# Altium footprint library Andy_Parts.PcbLib: 121 footprints (part 3 of 8)
Each footprint in its own frame and in the unit in brackets; x right, y up, seen from the top. Pads: shape width x height; smd on the part's side, far side on the other; paste and mask are expansions set on the pad; w line width, h text height; cw(c..) or ccw(c..) is an arc to the next point about the centre after c.
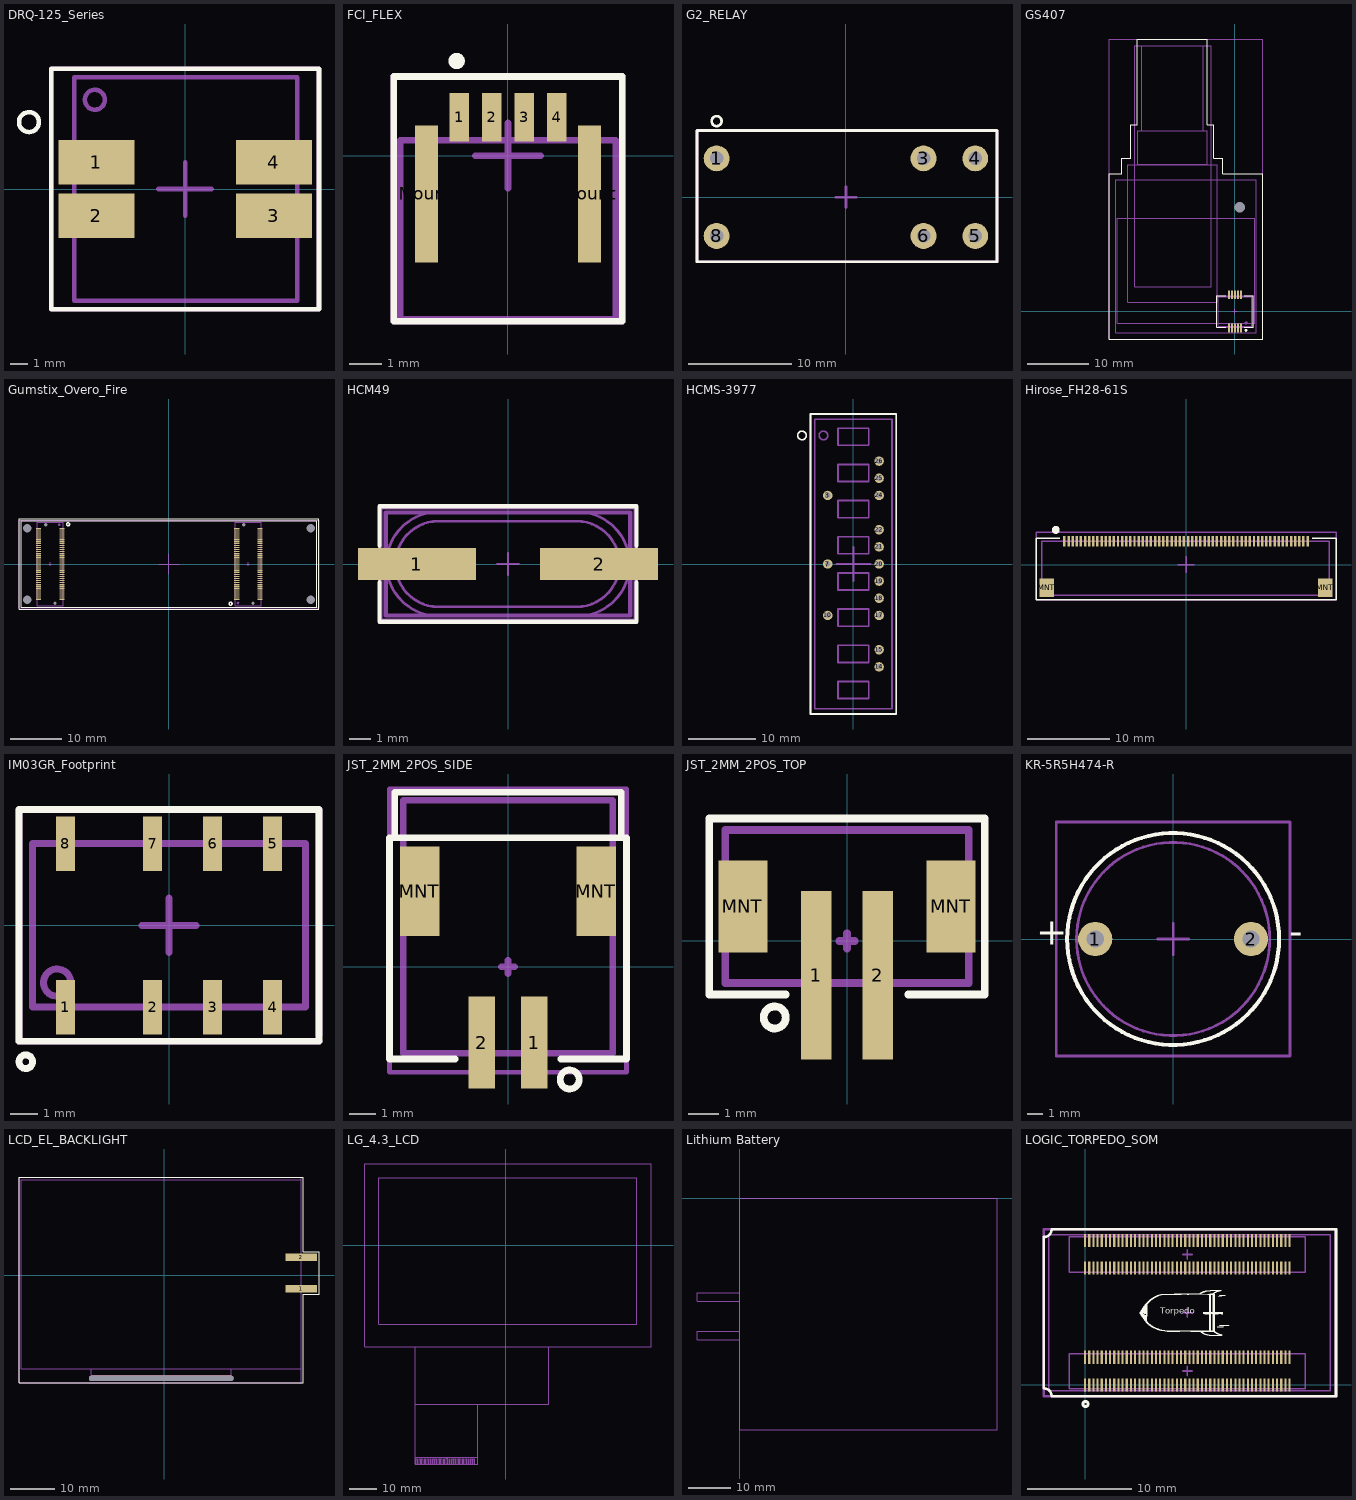
[diagram p2: the footprints below, top view; thin cyan lines are the x and y axes]

## DRQ-125_Series [mm] "Coiltronics DRQ125 series dual inductor"
height 6
pads (4):
  rect 4.25x2.5 smd: 1(-4.975,1.5) 2(-4.975,-1.5) 3(4.975,-1.5) 4(4.975,1.5)
Top Overlay:
  circle w0.254: c-8.75,3.75 r0.559
  lines w0.254: -7.5,-6.75 -7.5,-2.5 -7.5,6.75 7.5,6.75 7.5,-6.75 -7.5,-6.75
Mechanical 1:
  text ".Designator" at -2.75,-0.5 h2
Mechanical 13:
  circle w0.254: c-5.059,5 r0.559
  lines w0.254: -6.225,-6.25 -6.225,6.25 6.275,6.25 6.275,-6.25 -6.225,-6.25
Mechanical 15:
  lines w0.254: -1.5,0 0,0 ; 0,-1.5 0,0 ; 0,1.5 0,0 ; 1.5,0 0,0 ; -7.5,-6.75 7.5,-6.75 7.5,6.75 -7.5,6.75 -7.5,-2.5 -7.5,-6.75
3D body: height 6, standoff 0, extent -6.225,-6.25 6.275,6.25

## FCI_FLEX [mm] "4 position, 1mm pitch flex connector"
height 1.9
pads (6):
  rect 0.6x1.5 smd: 1(-1.5,1.175) 2(-0.5,1.175) 3(0.5,1.175) 4(1.5,1.175)
  rect 0.7x4.2 smd: Mount(-2.5,-1.175) Mount(2.5,-1.175)
Top Overlay:
  circle w0.25: c-1.575,2.9 r0.125
  lines w0.203: -3.5,-5.075 3.25,-5.075 3.5,-5.075 3.5,-5.025 3.5,2.425 3.25,2.425 2.25,2.425 -3.5,2.425 -3.5,-5.075
Mechanical 1:
  text ".Designator" at -2.009,-1.754 h0.64
Mechanical 13:
  lines w0.203: -3.3,-5.025 -3.3,0.475 3.3,0.475 3.3,-5.025 -3.3,-5.025
Mechanical 15:
  lines w0.203: -1,0 0,0 ; 0,-1 0,0 ; 0,1 0,0 ; 1,0 0,0 ; -3.5,-5.075 -3.5,2.425 2.25,2.425 3.25,2.425 3.5,2.425 3.5,-5.025 3.5,-5.075 3.25,-5.075 -3.5,-5.075
3D body: height 1.9, standoff 0, extent -3.3,-5.025 3.3,0.475

## G2_RELAY [mm] "Omron G2 series SPST PCB relay"
height 15.7
pads (6):
  round 2.5 hole 1.3: 1(-12.5,3.75) 3(7.5,3.75) 4(12.5,3.75) 5(12.5,-3.75) 6(7.5,-3.75) 8(-12.5,-3.75)
Top Overlay:
  circle w0.254: c-12.505,7.35 r0.48
  lines w0.254: -14.4,-6.25 14.6,-6.25 14.6,6.45 -14.4,6.45 -14.4,-6.25
Mechanical 1:
  text ".Designator" at -2.509,-0.254 h0.64
Mechanical 15:
  lines w0.254: -1,0 0,0 ; 0,-1 0,0 ; 0,1 0,0 ; 1,0 0,0 ; -14.4,-6.25 -14.4,6.45 14.6,6.45 14.6,-6.25 -14.4,-6.25
3D body: height 15.7, standoff 0.5, extent -14.4,-6.25 14.6,6.45

## GS407 [mm] "GPS module w/ helical antenna"
height 8.9
pads (11):
  rect 0.3x1.4 smd: 1(1,-2.7) 2(1,2.7) 3(0.5,-2.7) 4(0.5,2.7) 5(0,-2.7) 6(0,2.7) 7(-0.5,-2.7) 8(-0.5,2.7) 9(-1,-2.7) 10(-1,2.7)
  rect 0x0 hole 1.7 unplated: HOLE(0.75,17)
Top Overlay:
  circle w0.254: c1.8,-3.1 r0.1
  lines w0.152: -1.5,-2.6 -3,-2.6 -3,-1.5 -3,2.6 -1.5,2.6 ; 1.5,-2.6 3,-2.6 3,2.1 3,2.6 1.5,2.6 ; -20.5,-4.5 -20.5,5 -20.5,22.5 -18.5,22.5 -18.5,25 -17,25 -17,30.5 -16,30.5 -16,44.5 -5.5,44.5 -4.5,44.5 -4.5,30.5 -3.5,30.5 -3.5,25 -2,25 -2,22.5 4.5,22.5 4.5,19.5 4.5,-4.5 1,-4.5 -20.5,-4.5
Mechanical 1:
  lines w0.152: -16.4,4 -16.4,43.425 -6,43.425 -3.9,43.425 -3.9,4 -16.4,4
  text "Cut Out PCB Here" at -9.5,11 h1.52
  text ".Designator" at -2.75,-0.5 h0.75
Mechanical 13:
  circle w0.254: c1.825,-1.875 r0.135
  lines w0.152: -19.5,-3.5 3.5,-3.5 3.5,21.5 -19.5,21.5 -19.5,-3.5 ; -19.25,-1.9 3.25,-1.9 3.25,15.2 -19.25,15.2 -19.25,-1.9 ; -17.5,1.5 -17.5,24 -2.9,24 -2.9,1.5 -17.5,1.5 ; -16.4,4 -16.4,24 -3.9,24 -3.9,4 -16.4,4 ; -15.875,24.025 -4.525,24.025 -4.525,29.525 -15.875,29.525 -15.875,24.025 ; -15.211,29.525 -5.211,29.525 -5.211,43.425 -15.211,43.425 -15.211,29.525 ; -2.75,-2.4 2.75,-2.4 2.75,2.4 -2.75,2.4 -2.75,-2.4
Mechanical 15:
  lines w0.152: -0.4,0 0.4,0 ; 0,-0.4 0,0.4 ; -20.5,-4.5 4.5,-4.5 4.5,44.5 -4.5,44.5 -20.5,44.5 -20.5,-4.5 ; -3,-2.6 -3,2.6 3,2.6 3,-2.6 -3,-2.6
3D body: height 0.5, standoff -2, extent -16.4,4 -3.9,24
3D body: height 2, standoff 0, extent -2.75,-2.4 2.75,2.4
3D body: height 3.6, standoff 2, extent -19.5,-3.5 3.5,21.5
3D body: height 6.9, standoff 3.6, extent -19.25,-1.9 3.25,15.2
3D body: height 2, standoff 0.5, extent -17.5,1.5 -2.9,24
3D body: height 4.69, standoff -5.29, extent -15.211,29.525 -5.25,43.425
3D body: height 5.36, standoff -5.96, extent -15.85,24.025 -4.545,29.525

## Gumstix_Overo_Fire [mm] "Gumstix Overo Fire Computer on Module"
pads (148):
  rect 1x0.23 smd: 1(-20.7,6.8) 2(-20.7,6.4) 3(-20.7,6) 4(-20.7,5.6) 5(-20.7,5.2) 6(-20.7,4.8) 7(-20.7,4.4) 8(-20.7,4) 9(-20.7,3.6) 10(-20.7,3.2) 11(-20.7,2.8) 12(-20.7,2.4) 13(-20.7,2) 14(-20.7,1.6) 15(-20.7,1.2) 16(-20.7,0.8) 17(-20.7,0.4) 18(-20.7,0) 19(-20.7,-0.4) 20(-20.7,-0.8) 21(-20.7,-1.2) 22(-20.7,-1.6) 23(-20.7,-2) 24(-20.7,-2.4) 25(-20.7,-2.8) 26(-20.7,-3.2) 27(-20.7,-3.6) 28(-20.7,-4) 29(-20.7,-4.4) 30(-20.7,-4.8) 31(-20.7,-5.2) 32(-20.7,-5.6) 33(-20.7,-6) 34(-20.7,-6.4) 35(-20.7,-6.8) 36(-25.2,-6.8) 37(-25.2,-6.4) 38(-25.2,-6) 39(-25.2,-5.6) 40(-25.2,-5.2) 41(-25.2,-4.8) 42(-25.2,-4.4) 43(-25.2,-4) 44(-25.2,-3.6) 45(-25.2,-3.2) 46(-25.2,-2.8) 47(-25.2,-2.4) 48(-25.2,-2) 49(-25.2,-1.6) 50(-25.2,-1.2) 51(-25.2,-0.8) 52(-25.2,-0.4) 53(-25.2,0) 54(-25.2,0.4) 55(-25.2,0.8) 56(-25.2,1.2) 57(-25.2,1.6) 58(-25.2,2) 59(-25.2,2.4) 60(-25.2,2.8) 61(-25.2,3.2) 62(-25.2,3.6) 63(-25.2,4) 64(-25.2,4.4) 65(-25.2,4.8) 66(-25.2,5.2) 67(-25.2,5.6) 68(-25.2,6) 69(-25.2,6.4) 70(-25.2,6.8) 71(13.1,-6.8) 72(13.1,-6.4) 73(13.1,-6) 74(13.1,-5.6) 75(13.1,-5.2) 76(13.1,-4.8) 77(13.1,-4.4) 78(13.1,-4) 79(13.1,-3.6) 80(13.1,-3.2) 81(13.1,-2.8) 82(13.1,-2.4) 83(13.1,-2) 84(13.1,-1.6) 85(13.1,-1.2) 86(13.1,-0.8) 87(13.1,-0.4) 88(13.1,0) 89(13.1,0.4) 90(13.1,0.8) 91(13.1,1.2) 92(13.1,1.6) 93(13.1,2) 94(13.1,2.4) 95(13.1,2.8) 96(13.1,3.2) 97(13.1,3.6) 98(13.1,4) 99(13.1,4.4) 100(13.1,4.8) 101(13.1,5.2) 102(13.1,5.6) 103(13.1,6) 104(13.1,6.4) 105(13.1,6.8) 106(17.6,6.8) 107(17.6,6.4) 108(17.6,6) 109(17.6,5.6) 110(17.6,5.2) 111(17.6,4.8) 112(17.6,4.4) 113(17.6,4) 114(17.6,3.6) 115(17.6,3.2) 116(17.6,2.8) 117(17.6,2.4) 118(17.6,2) 119(17.6,1.6) 120(17.6,1.2) 121(17.6,0.8) 122(17.6,0.4) 123(17.6,0) 124(17.6,-0.4) 125(17.6,-0.8) 126(17.6,-1.2) 127(17.6,-1.6) 128(17.6,-2) 129(17.6,-2.4) 130(17.6,-2.8) 131(17.6,-3.2) 132(17.6,-3.6) 133(17.6,-4) 134(17.6,-4.4) 135(17.6,-4.8) 136(17.6,-5.2) 137(17.6,-5.6) 138(17.6,-6) 139(17.6,-6.4) 140(17.6,-6.8)
  round 0 hole 1.65 unplated: HOLE(-27.4,-6.9) HOLE(-27.4,6.9) HOLE(27.4,-6.9) HOLE(27.4,6.9)
  round 0 hole 0.65 unplated: HOLE(-23.85,7.6) HOLE(-22.05,-7.6) HOLE(14.45,7.6) HOLE(16.25,-7.6)
Top Overlay:
  circle w0.254: c-19.508,7.675 r0.283
  circle w0.254: c11.908,-7.675 r0.283
  lines w0.127: -29,-8.75 29,-8.75 29,8.75 -29,8.75 -29,-8.75 ; -28.6,-8.4 28.6,-8.4 28.6,8.4 -28.6,8.4 -28.6,-8.4
Mechanical 1:
  text ".Designator" at -7,-1 h1.52
Mechanical 13:
  circle w0.254: c13.325,-7.55 r0.112
  circle w0.254: c-21.2,7.6 r0.112
  lines w0.152: -29,-8.5 -29,8.5 29,8.5 29,-8.5 -29,-8.5 ; -25.45,-8.05 -25.45,8.05 -20.45,8.05 -20.45,-8.05 -25.45,-8.05 ; 12.85,-8.05 12.85,8.05 17.85,8.05 17.85,-8.05 12.85,-8.05
  text "J1" at 14.4,0.95 h1.52
  text "J4" at -24.05,1.525 h1.52
Mechanical 15:
  lines w0.152: -23.25,0 -22.65,0 ; -22.95,-0.3 -22.95,0.3 ; -2,0 2,0 ; 0,-2 0,2 ; 15.05,0 15.65,0 ; 15.35,-0.3 15.35,0.3 ; -29,-8.5 29,-8.5 29,8.5 -29,8.5 -29,-8.5
3D body: height 1.5, standoff 0, extent -25.45,-8.05 -20.45,8.05
3D body: height 5.7, standoff 1.5, extent -29,-8.5 29,8.5
3D body: height 1.5, standoff 0, extent 12.85,-8.05 17.85,8.05

## HCM49 [mm]
pads (2):
  rect 5.5x1.5 smd: 1(-4.25,0) 2(4.25,0)
Top Overlay:
  lines w0.2: -6,-0.85 -6,-2.7 6,-2.7 6,-0.85 ; -6,0.85 -6,2.7 6,2.7 6,0.85
Mechanical 1:
  text ".Designator" at 0,0 h1.27
Mechanical 13:
  lines w0.127: -3.25,-2.425 cw(c-3.25,0) -3.25,2.425 ; 3.25,-2.425 ccw(c3.25,0) 3.25,2.425 ; -3.25,-2 cw(c-3.25,0) -3.25,2 3.2,2 cw(c3.2,0) 3.2,-2 -3.25,-2
  lines w0.2: -5.7,-2.4 -5.7,2.4 5.7,2.4 5.7,-2.4 -5.7,-2.4
Mechanical 15:
  lines w0.1: -0.5,0 0.5,0 ; 0,-0.5 0,0.5 ; -5.9,-2.6 5.9,-2.6 5.9,2.6 -5.9,2.6 -5.9,-2.6
3D body: height 4.3, standoff 0.1, extent -5.207,-2 5.207,2
3D body: height 1.02, standoff 0, extent -5.7,-2.4 5.7,2.4

## HCMS-3977 [mil] "HCMS-3977 Matrix LED display footprint"
height 209.06
pads (14):
  round 55 hole 32: 3(-150,400) 7(-150,0) 10(-150,-300) 14(150,-600) 15(150,-500) 17(150,-300) 18(150,-200) 19(150,-100) 20(150,0) 21(150,100) 22(150,200) 24(150,400) 25(150,500) 26(150,600)
Top Overlay:
  circle w10: c-300,750 r25
  lines w10: -250,-875 -25,-875 250,-875 250,-800 250,875 -250,875 -250,-850 -250,-875
Mechanical 1:
  text ".Designator" at -50,-25 h100
Mechanical 13:
  circle w10: c-175,750 r25
  lines w10: -225,-845 225,-845 225,845 -225,845 -225,-845 ; -90,-785 90,-785 90,-685 -90,-685 -90,-785 ; -90,-574 -90,-474 90,-474 90,-574 -90,-574 ; -90,-363 -90,-263 90,-263 90,-363 -90,-363 ; -90,-152 -90,-52 90,-52 90,-152 -90,-152 ; -90,59 -90,159 90,159 90,59 -90,59 ; -90,270 -90,370 90,370 90,270 -90,270 ; -90,481 -90,581 90,581 90,481 -90,481 ; -90,692 -90,792 90,792 90,692 -90,692
Mechanical 15:
  lines w10: -100,0 0,0 ; 0,-100 0,0 ; 0,100 0,0 ; 100,0 0,0 ; -250,-875 -250,-850 -250,875 250,875 250,-800 250,-875 -25,-875 -250,-875
3D body: height 210, standoff 209, extent -90,692 90,792
3D body: height 210, standoff 209, extent -90,481 90,581
3D body: height 210, standoff 209, extent -90,270 90,370
3D body: height 210, standoff 209, extent -90,59 90,159
3D body: height 210, standoff 209, extent -90,-152 90,-52
3D body: height 210, standoff 209, extent -90,-363 90,-263
3D body: height 210, standoff 209, extent -90,-574 90,-474
3D body: height 210, standoff 209, extent -90,-785 90,-685
3D body: height 209, standoff 0, extent -225,-845 225,845

## Hirose_FH28-61S [mm] "60 pin FPC, 0.5mm pitch"
height 2.55
pads (62):
  rect 0.3x1.3 smd: 1(-14.75,2.825) 2(-14.25,2.825) 3(-13.75,2.825) 4(-13.25,2.825) 5(-12.75,2.825) 6(-12.25,2.825) 7(-11.75,2.825) 8(-11.25,2.825) 9(-10.75,2.825) 10(-10.25,2.825) 11(-9.75,2.825) 12(-9.25,2.825) 13(-8.75,2.825) 14(-8.25,2.825) 15(-7.75,2.825) 16(-7.25,2.825) 17(-6.75,2.825) 18(-6.25,2.825) 19(-5.75,2.825) 20(-5.25,2.825) 21(-4.75,2.825) 22(-4.25,2.825) 23(-3.75,2.825) 24(-3.25,2.825) 25(-2.75,2.825) 26(-2.25,2.825) 27(-1.75,2.825) 28(-1.25,2.825) 29(-0.75,2.825) 30(-0.25,2.825) 31(0.25,2.825) 32(0.75,2.825) 33(1.25,2.825) 34(1.75,2.825) 35(2.25,2.825) 36(2.75,2.825) 37(3.25,2.825) 38(3.75,2.825) 39(4.25,2.825) 40(4.75,2.825) 41(5.25,2.825) 42(5.75,2.825) 43(6.25,2.825) 44(6.75,2.825) 45(7.25,2.825) 46(7.75,2.825) 47(8.25,2.825) 48(8.75,2.825) 49(9.25,2.825) 50(9.75,2.825) 51(10.25,2.825) 52(10.75,2.825) 53(11.25,2.825) 54(11.75,2.825) 55(12.25,2.825) 56(12.75,2.825) 57(13.25,2.825) 58(13.75,2.825) 59(14.25,2.825) 60(14.75,2.825)
  rect 1.8x2.2 smd: MNT(-16.9,-2.825) MNT(16.9,-2.825)
Top Overlay:
  circle w0.508: c-15.8,4.2 r0.224
  lines w0.178: -15.3,3.2 -18.2,3.2 -18.2,2.4 -18.2,-4.3 18.2,-4.3 18.2,-0.4 18.2,3.2 15.3,3.2
Mechanical 1:
  text ".Designator" at -2.9,-1 h2.54
Mechanical 13:
  lines w0.178: -17.5,-3.7 17.4,-3.7 17.4,2.8 -17.5,2.8 -17.5,-3.7
Mechanical 15:
  lines w0.178: -1,0 1,0 ; 0,-1 0,1 ; -18.2,-4.3 -18.2,3.9 -12.4,3.9 18.2,3.9 18.2,-4.2 18.2,-4.3 15.7,-4.3 -18.2,-4.3
3D body: height 2.55, standoff 0, extent -17.5,-3.7 17.4,2.8

## IM03GR_Footprint [mm] "Footprint for AXICOM series of relays"
height 5.65
pads (8):
  rect 0.7x2 smd: 1(-3.8,-3) 2(-0.6,-3) 3(1.6,-3) 4(3.8,-3) 5(3.8,3) 6(1.6,3) 7(-0.6,3) 8(-3.8,3)
Top Overlay:
  circle w0.254: c-5.25,-5 r0.25
  lines w0.254: -5.5,-4.25 -5.5,4.25 -3.25,4.25 5.5,4.25 5.5,-4 5.5,-4.25 -5.5,-4.25
Mechanical 1:
  text ".Designator" at -2.25,-0.5 h2.54
Mechanical 13:
  circle w0.254: c-4.1,-2.1 r0.5
  lines w0.254: -5,-3 -5,3 5,3 5,-3 -5,-3
Mechanical 15:
  lines w0.254: -1,0 1,0 ; 0,-1 0,1 ; 5.5,-4.25 -5.5,-4.25 -5.5,4.25 -3.25,4.25 5.5,4.25 5.5,-4
3D body: height 5.65, standoff 0, extent -5,-3 5,3

## JST_2MM_2POS_SIDE [mm] "CONN HEADER PH SIDE 2POS 2MM SMD"
height 5.5
pads (4):
  rect 1x3.5 smd: 1(1,-2.875) 2(-1,-2.875)
  rect 1.5x3.4 smd: MNT(-3.35,2.875) MNT(3.35,2.875)
Top Overlay:
  circle w0.254: c2.339,-4.275 r0.361
  lines w0.254: -4.3,4.9 -4.3,6.625 4.3,6.625 4.3,4.9 ; -2,-3.5 -4.5,-3.5 -4.5,4.9 4.5,4.9 4.5,-3.5 2,-3.5
Mechanical 1:
  text ".Designator" at -1.3,-1.15 h1
Mechanical 13:
  lines w0.254: -3.975,-3.275 3.975,-3.275 3.975,6.325 -3.975,6.325 -3.975,-3.275
Mechanical 15:
  lines w0.178: -4.5,-4 4.5,-4 4.5,6.75 -4.5,6.75 -4.5,-4
  lines w0.254: -0.25,0 0.25,0 ; 0,-0.25 0,0.25
3D body: height 5.5, standoff 0, extent -3.975,-3.275 3.975,6.325

## JST_2MM_2POS_TOP [mm] "CONN HEADER PH TOP 2POS 2MM SMD"
height 8.6
pads (4):
  rect 1x5.5 smd: 1(-1,-1.125) 2(1,-1.125)
  rect 1.6x3 smd: MNT(-3.4,1.125) MNT(3.4,1.125)
Top Overlay:
  circle w0.254: c-2.361,-2.5 r0.361
  lines w0.254: -2,-1.75 -4.5,-1.75 -4.5,4 4.5,4 4.5,-1.75 2,-1.75
Mechanical 1:
  text ".Designator" at -1.3,0.6 h1
Mechanical 15:
  lines w0.254: -0.25,0 0.25,0 ; 0,-0.25 0,0.25 ; -3.975,-1.375 -3.975,3.625 3.975,3.625 3.975,-1.375 -3.975,-1.375
3D body: height 8.6, standoff 0, extent -3.975,-1.375 3.975,3.625

## KR-5R5H474-R [mm] "Cooper/Bussmann H-type super cap"
height 5
pads (2):
  round 2.2 hole 1.1: 1(-5,0) 2(5,0)
Top Overlay:
  circle w0.254: c0,0 r6.8
  text "+" at -8.8,-0.95 h3
  text "-" at 7.45,-0.9 h3
Mechanical 1:
  text ".Designator" at -2.25,-1 h3
Mechanical 13:
  circle w0.178: c0,0 r6.2
  text "-" at 2.45,-0.725 h3
  text "+" at -3.525,-0.925 h3
Mechanical 15:
  lines w0.178: -1,0 1,0 ; 0,-1 0,1 ; -7.5,-7.5 -7.5,1.75 -7.5,7.5 3.5,7.5 7.5,7.5 7.5,-2 7.5,-7.5 -3.25,-7.5 -7.5,-7.5
3D body: height 5, standoff 0, extent -6.176,-6.188 6.175,6.188

## LCD_EL_BACKLIGHT [mm] "Graphic LCD with EL backlight"
height 2.4
pads (3):
  rect 7x1.7 smd: 1(30.8,-3) 2(30.8,4)
  oval 32.5x1.2 hole 1.2 slot 32.5 at 0 deg unplated paste+0 mask+0: SLOT(-0.7,-23.2)
Top Overlay:
  lines w0.203: -32.7,-24.25 -32.7,22 -32.45,22 31.3,22 31.3,5.25 34.8,5.25 34.8,-4.25 31.3,-4.25 31.3,-12.75 31.3,-24.25 -32.2,-24.25 -32.7,-24.25
Mechanical 1:
  text ".Designator" at -7.428,-0.244 h2.54
Mechanical 13:
  lines w0.254: -32.2,-21 -32.2,21.5 30.8,21.5 30.8,-21 -32.2,-21 ; -16.5,-22.55 15.1,-22.55 15.1,-21.05 -16.5,-21.05 -16.5,-22.55
Mechanical 15:
  lines w0.203: -32.7,-24.25 -32.2,-24.25 30.8,-24.25 30.8,-12.25 30.8,22 -32.45,22 -32.7,22 -32.7,-24.25
3D body: height 0.15, standoff 0, extent -16.5,-22.55 15.1,-21.05
3D body: height 2.4, standoff 0, extent -32.2,-21 30.8,21.5

## LG_4.3_LCD [mm] "4.3\" LG LCD"
height 4
Mechanical 1:
  lines w0.254: -33.45,-78 -10.45,-78 ; -33.45,-80.43 -33.45,-58.38 -10.45,-58.38 -10.45,-80.43 -33.45,-80.43 ; -32.95,-80.43 -32.45,-80.43 -32.45,-78.43 -32.95,-78.43 -32.95,-80.43 ; -31.95,-80.43 -31.95,-78.43 -31.45,-78.43 -31.45,-80.43 -31.95,-80.43 ; -30.95,-80.43 -30.95,-78.43 -30.45,-78.43 -30.45,-80.43 -30.95,-80.43 ; -29.95,-80.43 -29.95,-78.43 -29.45,-78.43 -29.45,-80.43 -29.95,-80.43 ; -28.95,-80.43 -28.95,-78.43 -28.45,-78.43 -28.45,-80.43 -28.95,-80.43 ; -27.95,-80.43 -27.95,-78.43 -27.45,-78.43 -27.45,-80.43 -27.95,-80.43 ; -26.95,-80.43 -26.95,-78.43 -26.45,-78.43 -26.45,-80.43 -26.95,-80.43 ; -25.95,-80.43 -25.95,-78.43 -25.45,-78.43 -25.45,-80.43 -25.95,-80.43 ; -24.95,-80.43 -24.95,-78.43 -24.45,-78.43 -24.45,-80.43 -24.95,-80.43 ; -23.95,-80.43 -23.95,-78.43 -23.45,-78.43 -23.45,-80.43 -23.95,-80.43 ; -22.95,-80.43 -22.95,-78.43 -22.45,-78.43 -22.45,-80.43 -22.95,-80.43 ; -21.95,-80.4 -21.95,-78.4 -21.45,-78.4 -21.45,-80.4 -21.95,-80.4 ; -20.95,-80.43 -20.95,-78.43 -20.45,-78.43 -20.45,-80.43 -20.95,-80.43 ; -19.95,-80.43 -19.95,-78.43 -19.45,-78.43 -19.45,-80.43 -19.95,-80.43 ; -18.95,-80.43 -18.95,-78.43 -18.45,-78.43 -18.45,-80.43 -18.95,-80.43 ; -17.95,-80.43 -17.95,-78.43 -17.45,-78.43 -17.45,-80.43 -17.95,-80.43 ; -16.95,-80.43 -16.95,-78.43 -16.45,-78.43 -16.45,-80.43 -16.95,-80.43 ; -15.95,-80.43 -15.95,-78.43 -15.45,-78.43 -15.45,-80.43 -15.95,-80.43 ; -14.95,-80.43 -14.95,-78.43 -14.45,-78.43 -14.45,-80.43 -14.95,-80.43 ; -13.95,-80.43 -13.95,-78.43 -13.45,-78.43 -13.45,-80.43 -13.95,-80.43 ; -12.95,-80.43 -12.95,-78.43 -12.45,-78.43 -12.45,-80.43 -12.95,-80.43 ; -11.95,-80.43 -11.95,-78.43 -11.45,-78.43 -11.45,-80.43 -11.95,-80.43
  text ".Designator" at -12.45,-2.43 h3
Mechanical 13:
  lines w0.254: -52,-37.2 -52,30 53.5,30 53.5,-37.2 -52,-37.2 ; -46.86,-28.94 -46.86,24.91 48.18,24.91 48.18,-28.94 -46.86,-28.94 ; -33.45,-58.38 15.76,-58.38 15.76,-37.2 -33.45,-37.2 -33.45,-58.38
3D body: height 3.5, standoff 2.2, extent -33.45,-58.38 15.76,-37.2
3D body: height 4, standoff 3.95, extent -46.86,-28.94 48.18,24.91
3D body: height 3.95, standoff 0, extent -52,-37.2 53.5,30
3D body: height 2.6, standoff 2.4, extent -11.95,-80.43 -11.45,-78.43
3D body: height 2.6, standoff 2.4, extent -12.95,-80.43 -12.45,-78.43
3D body: height 2.6, standoff 2.4, extent -13.95,-80.43 -13.45,-78.43
3D body: height 2.6, standoff 2.4, extent -14.95,-80.43 -14.45,-78.43
3D body: height 2.6, standoff 2.4, extent -15.95,-80.43 -15.45,-78.43
3D body: height 2.6, standoff 2.4, extent -16.95,-80.43 -16.45,-78.43
3D body: height 2.6, standoff 2.4, extent -17.95,-80.43 -17.45,-78.43
3D body: height 2.6, standoff 2.4, extent -18.95,-80.43 -18.45,-78.43
3D body: height 2.6, standoff 2.4, extent -19.95,-80.43 -19.45,-78.43
3D body: height 2.6, standoff 2.4, extent -20.95,-80.43 -20.45,-78.43
3D body: height 2.6, standoff 2.4, extent -21.95,-80.4 -21.45,-78.4
3D body: height 2.6, standoff 2.4, extent -22.95,-80.43 -22.45,-78.43
3D body: height 2.6, standoff 2.4, extent -23.95,-80.43 -23.45,-78.43
3D body: height 2.6, standoff 2.4, extent -24.95,-80.43 -24.45,-78.43
3D body: height 2.6, standoff 2.4, extent -25.95,-80.43 -25.45,-78.43
3D body: height 2.6, standoff 2.4, extent -26.95,-80.43 -26.45,-78.43
3D body: height 2.6, standoff 2.4, extent -27.95,-80.43 -27.45,-78.43
3D body: height 2.6, standoff 2.4, extent -28.95,-80.43 -28.45,-78.43
3D body: height 2.6, standoff 2.4, extent -29.95,-80.43 -29.45,-78.43
3D body: height 2.6, standoff 2.4, extent -30.95,-80.43 -30.45,-78.43
3D body: height 2.6, standoff 2.4, extent -31.95,-80.43 -31.45,-78.43
3D body: height 2.6, standoff 2.4, extent -32.95,-80.43 -32.45,-78.43
3D body: height 2.4, standoff 2, extent -33.45,-80.4 -10.45,-78
3D body: height 2.6, standoff 2.2, extent -33.45,-78 -10.49,-58.38

## Lithium Battery [mm] "Union Battery 2000mAh Li-ion battery pack"
height 5.8
Mechanical 1:
  text ".Designator" at 19,-29 h2
Mechanical 13:
  lines w0.152: 0,-24 0,-22 -10,-22 -10,-24 0,-24 ; 0,-24 0,-24 ; -10,-33 0,-33 0,-31 -10,-31 -10,-33 ; 0,-54 60,-54 60,0 0,0 0,-54
3D body: height 5.8, standoff 0, extent 0,-54 60,0
3D body: height 5.85, standoff 5.8, extent 0,-54 10,0
3D body: height 3.5, standoff 2.5, extent -10,-24 0,-22
3D body: height 3.5, standoff 2.5, extent -10,-33 0,-31

## LOGIC_TORPEDO_SOM [mm]
height 3.5
pads (200):
  rect 0.2x1.25 smd: 1(0,0) 2(0,2.64) 3(0.4,0) 4(0.4,2.64) 5(0.8,0) 6(0.8,2.64) 7(1.2,0) 8(1.2,2.64) 9(1.6,0) 10(1.6,2.64) 11(2,0) 12(2,2.64) 13(2.4,0) 14(2.4,2.64) 15(2.8,0) 16(2.8,2.64) 17(3.2,0) 18(3.2,2.64) 19(3.6,0) 20(3.6,2.64) 21(4,0) 22(4,2.64) 23(4.4,0) 24(4.4,2.64) 25(4.8,0) 26(4.8,2.64) 27(5.2,0) 28(5.2,2.64) 29(5.6,0) 30(5.6,2.64) 31(6,0) 32(6,2.64) 33(6.4,0) 34(6.4,2.64) 35(6.8,0) 36(6.8,2.64) 37(7.2,0) 38(7.2,2.64) 39(7.6,0) 40(7.6,2.64) 41(8,0) 42(8,2.64) 43(8.4,0) 44(8.4,2.64) 45(8.8,0) 46(8.8,2.64) 47(9.2,0) 48(9.2,2.64) 49(9.6,0) 50(9.6,2.64) 51(10,0) 52(10,2.64) 53(10.4,0) 54(10.4,2.64) 55(10.8,0) 56(10.8,2.64) 57(11.2,0) 58(11.2,2.64) 59(11.6,0) 60(11.6,2.64) 61(12,0) 62(12,2.64) 63(12.4,0) 64(12.4,2.64) 65(12.8,0) 66(12.8,2.64) 67(13.2,0) 68(13.2,2.64) 69(13.6,0) 70(13.6,2.64) 71(14,0) 72(14,2.64) 73(14.4,0) 74(14.4,2.64) 75(14.8,0) 76(14.8,2.64) 77(15.2,0) 78(15.2,2.64) 79(15.6,0) 80(15.6,2.64) 81(16,0) 82(16,2.64) 83(16.4,0) 84(16.4,2.64) 85(16.8,0) 86(16.8,2.64) 87(17.2,0) 88(17.2,2.64) 89(17.6,0) 90(17.6,2.64) 91(18,0) 92(18,2.64) 93(18.4,0) 94(18.4,2.64) 95(18.8,0) 96(18.8,2.64) 97(19.2,0) 98(19.2,2.64) 99(19.6,0) 100(19.6,2.64) 101(0,11.18) 102(0,13.82) 103(0.4,11.18) 104(0.4,13.82) 105(0.8,11.18) 106(0.8,13.82) 107(1.2,11.18) 108(1.2,13.82) 109(1.6,11.18) 110(1.6,13.82) 111(2,11.18) 112(2,13.82) 113(2.4,11.18) 114(2.4,13.82) 115(2.8,11.18) 116(2.8,13.82) 117(3.2,11.18) 118(3.2,13.82) 119(3.6,11.18) 120(3.6,13.82) 121(4,11.18) 122(4,13.82) 123(4.4,11.18) 124(4.4,13.82) 125(4.8,11.18) 126(4.8,13.82) 127(5.2,11.18) 128(5.2,13.82) 129(5.6,11.18) 130(5.6,13.82) 131(6,11.18) 132(6,13.82) 133(6.4,11.18) 134(6.4,13.82) 135(6.8,11.18) 136(6.8,13.82) 137(7.2,11.18) 138(7.2,13.82) 139(7.6,11.18) 140(7.6,13.82) 141(8,11.18) 142(8,13.82) 143(8.4,11.18) 144(8.4,13.82) 145(8.8,11.18) 146(8.8,13.82) 147(9.2,11.18) 148(9.2,13.82) 149(9.6,11.18) 150(9.6,13.82) 151(10,11.18) 152(10,13.82) 153(10.4,11.18) 154(10.4,13.82) 155(10.8,11.18) 156(10.8,13.82) 157(11.2,11.18) 158(11.2,13.82) 159(11.6,11.18) 160(11.6,13.82) 161(12,11.18) 162(12,13.82) 163(12.4,11.18) 164(12.4,13.82) 165(12.8,11.18) 166(12.8,13.82) 167(13.2,11.18) 168(13.2,13.82) 169(13.6,11.18) 170(13.6,13.82) 171(14,11.18) 172(14,13.82) 173(14.4,11.18) 174(14.4,13.82) 175(14.8,11.18) 176(14.8,13.82) 177(15.2,11.18) 178(15.2,13.82) 179(15.6,11.18) 180(15.6,13.82) 181(16,11.18) 182(16,13.82) 183(16.4,11.18) 184(16.4,13.82) 185(16.8,11.18) 186(16.8,13.82) 187(17.2,11.18) 188(17.2,13.82) 189(17.6,11.18) 190(17.6,13.82) 191(18,11.18) 192(18,13.82) 193(18.4,11.18) 194(18.4,13.82) 195(18.8,11.18) 196(18.8,13.82) 197(19.2,11.18) 198(19.2,13.82) 199(19.6,11.18) 200(19.6,13.82)
Top Overlay:
  drawing of 1991 lines, arcs and shapes, not listed
  text "Torpedo" at 7.2,6.635 h1
Mechanical 13:
  lines w0.127: -3.5,-0.58 -3.5,14.4 23.5,14.4 23.5,-0.58 -3.5,-0.58 ; -1.5,-0.377 21.1,-0.377 21.1,2.997 -1.5,2.997 -1.5,-0.377 ; -1.5,10.803 -1.5,14.178 21.1,14.178 21.1,10.803 -1.5,10.803
Mechanical 15:
  lines w0.178: 9.36,1.32 9.8,1.32 ; 9.36,6.91 9.8,6.91 ; 9.36,12.5 9.8,12.5 ; 9.8,0.88 9.8,1.32 ; 9.8,1.76 9.8,1.32 ; 9.8,6.47 9.8,6.91 ; 9.8,7.35 9.8,6.91 ; 9.8,12.06 9.8,12.5 ; 9.8,12.94 9.8,12.5 ; 10.24,1.32 9.8,1.32 ; 10.24,6.91 9.8,6.91 ; 10.24,12.5 9.8,12.5
  lines w0.254: -3.95,-1.09 -3.95,14.91 24.05,14.91 24.05,-1.09 -3.95,-1.09
3D body: height 1.5, standoff 0, extent -1.5,-0.377 21.1,2.997
3D body: height 1.5, standoff 0, extent -1.5,10.803 21.1,14.178
3D body: height 2.3, standoff 1.5, extent -3.5,-0.58 23.5,14.4
3D body: height 3.8, standoff 2.3, extent 5.3,0.21 18.2,13.61
3D body: height 3.6, standoff 2.3, extent 19.4,1.01 23,12.61